# EAGLE library part SN65DSI83-Q1 (library glasses)
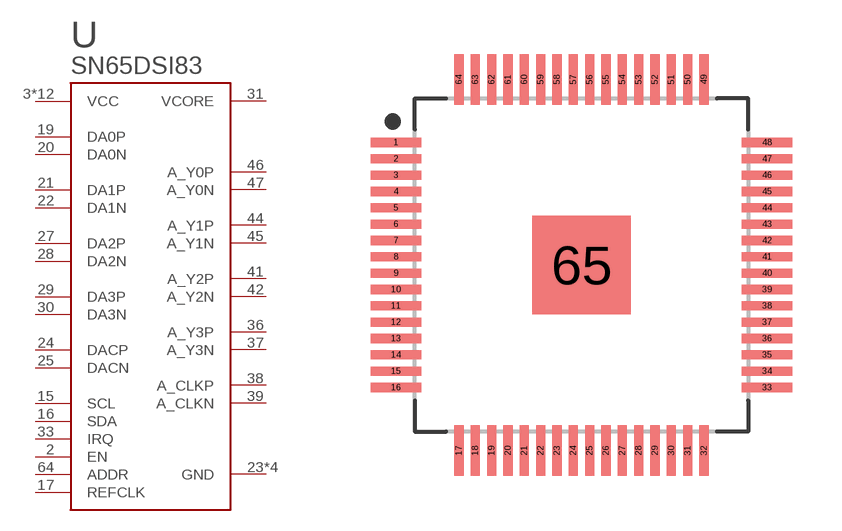
[diagram p12: symbol with the pads of QFP50P1200X1200X120-65T300; footprint QFP50P1200X1200X120-65T300]

Designator prefix U

## SN65DSI83-Q1S-PQFP-G64  [QFP50P1200X1200X120-65T300]
2  EN
3  VCC
14  VCC
15  SCL
16  SDA
17  REFCLK
18  VCC
19  DA0P
20  DA0N
21  DA1P
22  DA1N
23  GND
24  DACP
25  DACN
26  GND
27  DA2P
28  DA2N
29  DA3P
30  DA3N
31  VCORE
32  VCC
33  IRQ
35  VCC
36  A_Y3P
37  A_Y3N
38  A_CLKP
39  A_CLKN
40  VCC
41  A_Y2P
42  A_Y2N
43  VCC
44  A_Y1P
45  A_Y1N
46  A_Y0P
47  A_Y0N
48  VCC
49  VCC
52  GND
55  VCC
58  VCC
63  VCC
64  ADDR
65  GND

## Footprint QFP50P1200X1200X120-65T300 (pad centres in mm)
64-QFP, 0.50 mm pitch, 12.00 mm span, 10.00 X 10.00 X 1.20 mm body, 3.00 X 3.00 mm thermal pad 64-pin QFP package with 0.50 mm pitch, 12.00 mm lead span1 X 12.00 mm lead span2 with body size 10.00 X 10.00 X 1.20 mm and thermal pad size 3.00 X 3.00 mm
smd 1.559 x 0.28: 1 -5.678,3.75; 2 -5.678,3.25; 3 -5.678,2.75; 4 -5.678,2.25; 5 -5.678,1.75; 6 -5.678,1.25; 7 -5.678,0.75; 8 -5.678,0.25; 9 -5.678,-0.25; 10 -5.678,-0.75; 11 -5.678,-1.25; 12 -5.678,-1.75; 13 -5.678,-2.25; 14 -5.678,-2.75; 15 -5.678,-3.25; 16 -5.678,-3.75; 33 5.678,-3.75; 34 5.678,-3.25; 35 5.678,-2.75; 36 5.678,-2.25; 37 5.678,-1.75; 38 5.678,-1.25; 39 5.678,-0.75; 40 5.678,-0.25; 41 5.678,0.25; 42 5.678,0.75; 43 5.678,1.25; 44 5.678,1.75; 45 5.678,2.25; 46 5.678,2.75; 47 5.678,3.25; 48 5.678,3.75
smd 0.28 x 1.559: 17 -3.75,-5.678; 18 -3.25,-5.678; 19 -2.75,-5.678; 20 -2.25,-5.678; 21 -1.75,-5.678; 22 -1.25,-5.678; 23 -0.75,-5.678; 24 -0.25,-5.678; 25 0.25,-5.678; 26 0.75,-5.678; 27 1.25,-5.678; 28 1.75,-5.678; 29 2.25,-5.678; 30 2.75,-5.678; 31 3.25,-5.678; 32 3.75,-5.678; 49 3.75,5.678; 50 3.25,5.678; 51 2.75,5.678; 52 2.25,5.678; 53 1.75,5.678; 54 1.25,5.678; 55 0.75,5.678; 56 0.25,5.678; 57 -0.25,5.678; 58 -0.75,5.678; 59 -1.25,5.678; 60 -1.75,5.678; 61 -2.25,5.678; 62 -2.75,5.678; 63 -3.25,5.678; 64 -3.75,5.678
smd 3 x 3: 65 0,0